# Altium footprint library PL02_22F.PcbLib: 34 footprints (part 2 of 3)
Each footprint in its own frame and in the unit in brackets; x right, y up, seen from the top. Pads: shape width x height; smd on the part's side, far side on the other; paste and mask are expansions set on the pad; w line width, h text height; cw(c..) or ccw(c..) is an arc to the next point about the centre after c.
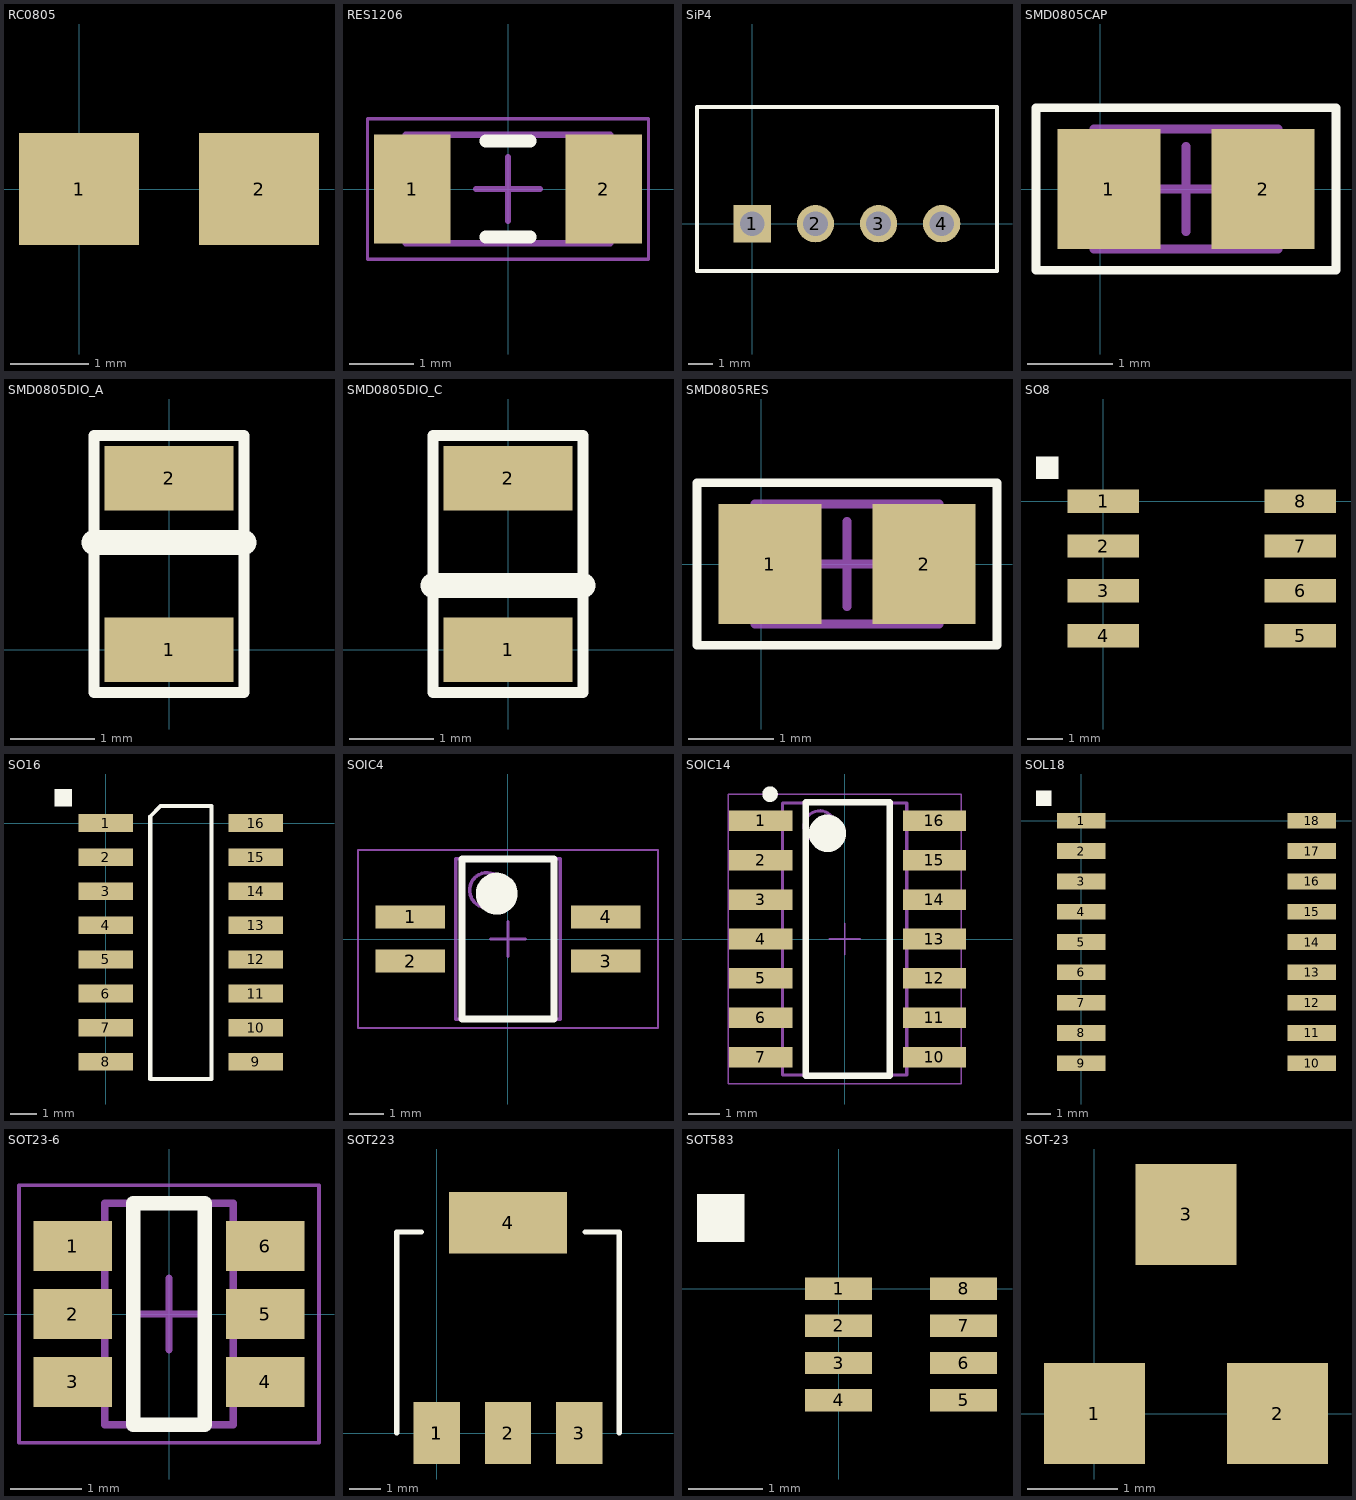
[diagram p1: the footprints below, top view; thin cyan lines are the x and y axes]

## RC0805 [mil]
pads (2):
  rect 60x56 smd: 1(0,0) 2(90,0)
3D body "CAPC2012X140N.stp": height 51.18, standoff 0, extent 3.67,-26.57 86.34,26.58

## RES1206 [mm] "Chip Resistor, 2-Leads, Body 3,10x1,60mm, IPC Medium Density"
height 0.6
pads (2):
  rect 1.2x1.7 smd: 1(-1.5,0) 2(1.5,0)
Top Overlay:
  lines w0.2: -0.35,-0.75 0.35,-0.75 ; -0.35,0.75 0.35,0.75
Mechanical 13:
  lines w0.1: -1.6,-0.85 1.6,-0.85 1.6,0.85 -1.6,0.85 -1.6,-0.85
Mechanical 15:
  lines w0.05: -2.2,-1.1 2.2,-1.1 2.2,1.1 -2.2,1.1 -2.2,-1.1
  lines w0.1: -0.5,0 0.5,0 ; 0,-0.5 0,0.5
3D body "RES1206.step": height 0.6, standoff 0, extent -1.6,-0.85 1.6,0.85

## SiP4 [mm]
height 1.2
pads (4):
  rect 1.5x1.5 hole 1: 1(0,0)
  round 1.5 hole 1: 2(2.54,0) 3(5.08,0) 4(7.62,0)
Top Overlay:
  lines w0.15: -2.222,-1.905 9.842,-1.905 ; -2.222,-1.841 -2.222,4.699 9.842,4.699 9.842,-1.841
3D body "DCDC_TRACO_TME24.stp": height 10.45, standoff -3.2, extent -2.065,-1.8 9.685,5.45

## SMD0805CAP [mm] "Чипконденсатор, 2.0x1.3mm"
height 0.65
pads (2):
  rect 1.2x1.4 smd: 1(0.102,0.002) 2(1.902,0.002)
Top Overlay:
  lines w0.1: -0.748,-0.948 -0.748,0.952 2.752,0.952 2.752,-0.948 -0.748,-0.948
Mechanical 13:
  lines w0.1: -0.073,-0.698 2.077,-0.698 2.077,0.702 -0.073,0.702 -0.073,-0.698
Mechanical 15:
  lines w0.1: 0.502,0.002 1.502,0.002 ; 1.002,-0.498 1.002,0.502
3D body: height 16.5, standoff 0, extent 4.03,-0.548 4.03,-0.548
3D body "CAPC2012X90N.stp": height 0.9, standoff 0, extent -0.025,-0.675 2.075,0.675
3D body: height 1.3, standoff 0, extent -1.651,-0.127 -1.651,-0.127

## SMD0805DIO_A [mil]
pads (2):
  rect 60x30 smd: 1(0,0) 2(0,80)
Top Overlay:
  lines w5: -35,-20 35,-20 35,100 -35,100 -35,-20
  lines w11.81: -35,50 35,50
3D body "LED_OSRAM_LYR976.stp": height 35.43, standoff 0, extent -26.58,-1.33 26.57,81.34

## SMD0805DIO_C [mil]
pads (2):
  rect 60x30 smd: 1(0,0) 2(0,80)
Top Overlay:
  lines w5: -35,-20 -35,100 35,100 35,-20 -35,-20
  lines w11.81: -35,30 35,30
3D body "LED_OSRAM_LYR976.stp": height 35.43, standoff 0, extent -26.58,-1.33 26.57,81.34

## SMD0805RES [mm] "Чипрезистор, 2.0x1.3mm"
height 0.65
pads (2):
  rect 1.2x1.4 smd: 1(0.102,0.002) 2(1.902,0.002)
Top Overlay:
  lines w0.1: -0.748,-0.948 2.752,-0.948 2.752,0.952 -0.748,0.952 -0.748,-0.948
Mechanical 13:
  lines w0.1: -0.073,-0.698 -0.073,0.702 2.077,0.702 2.077,-0.698 -0.073,-0.698
Mechanical 15:
  lines w0.1: 0.502,0.002 1.502,0.002 ; 1.002,-0.498 1.002,0.502
3D body "RES0805.STEP": height 0.51, standoff 0, extent 0,-0.627 2.004,0.627

## SO8 [mil] "SOIC 8, Pitch 1.27mm - Body 4x5mm, IPC Medium Density"
pads (8):
  rect 80x26 smd: 1(0,0) 2(0,-50) 3(0,-100) 4(0,-150) 5(220,-150) 6(220,-100) 7(220,-50) 8(220,0)
Top Overlay:
  region: -75,25 -50,25 -50,50 -75,50
3D body "SOIC127P600X175-8N.stp": height 68.9, standoff 0, extent -15.74,-173.42 228.36,23.43

## SO16 [mil] "SOIC 16, Pitch 1.27mm - Body 4x10mm, IPC Medium Density"
height 68.9
pads (16):
  rect 80x26 smd: 1(0,0) 2(0,-50) 3(0,-100) 4(0,-150) 5(0,-200) 6(0,-250) 7(0,-300) 8(0,-350) 9(220,-350) 10(220,-300) 11(220,-250) 12(220,-200) 13(220,-150) 14(220,-100) 15(220,-50) 16(220,0)
Top Overlay:
  region: -75,25 -50,25 -50,50 -75,50
  lines w5.91: 65,-375 65,10 80,25 155,25 155,-375 65,-375
3D body "SOIC127P600X175-16N.stp": height 68.9, standoff 0, extent -15.75,-371.85 228.35,21.85

## SOIC4 [mm]
height 2.1
pads (4):
  rect 2x0.66 smd: 1(-2.8,0.635) 2(-2.8,-0.635) 3(2.8,-0.635) 4(2.8,0.635)
Top Overlay:
  circle w0.6: c-0.325,1.3 r0.3
  lines w0.2: -1.325,-2.3 -1.325,2.3 1.325,2.3 1.325,-2.3 -1.325,-2.3
Mechanical 13:
  circle w0.1: c-0.6,1.4 r0.5
  lines w0.1: -1.5,-2.3 -1.5,2.3 1.5,2.3 1.5,-2.3 -1.5,-2.3
Mechanical 15:
  lines w0.05: -4.3,-2.55 -4.3,2.55 4.3,2.55 4.3,-2.55 -4.3,-2.55
  lines w0.1: -0.5,0 0.5,0 ; 0,-0.5 0,0.5
3D body: height 2.1, standoff 0.2, extent -1.5,-2.3 1.5,2.3

## SOIC14 [mil] "SOIC 14, Pitch 1.27mm - Body 4x8.75mm, IPC Medium Density"
height 68.9
pads (14):
  rect 80x26 smd: 1(-106.3,150) 2(-106.3,100) 3(-106.3,50) 4(-106.3,0) 5(-106.3,-50) 6(-106.3,-100) 7(-106.3,-150) 10(113.7,-150) 11(113.7,-100) 12(113.7,-50) 13(113.7,0) 14(113.7,50) 15(113.7,100) 16(113.7,150)
Top Overlay:
  circle w23.62: c-21.65,133.86 r11.81
  circle w9.84: c-94.49,183.46 r4.92
  lines w7.87: -49.21,-173.23 -49.21,173.23 56.1,173.23 ; -48.23,-173.23 57.09,-173.23 57.09,173.23
Mechanical 14:
  circle w3.94: c-31.5,142.72 r19.68
  lines w3.94: -78.74,-172.05 78.74,-172.05 78.74,172.05 -78.74,172.05 -78.74,-172.05
Mechanical 15:
  lines w1.97: -19.69,0 19.68,0 ; 0,-19.68 0,19.68 ; -147.64,-183.07 147.64,-183.07 147.64,183.07 -147.64,183.07 -147.64,-183.07
3D body "SOIC127P600X175-14N.stp": height 68.9, standoff 0, extent -118.58,-172.24 125.51,172.25

## SOL18 [mil]
pads (18):
  rect 80x26 smd: 1(0,0) 2(0,-50) 3(0,-100) 4(0,-150) 5(0,-200) 6(0,-250) 7(0,-300) 8(0,-350) 9(0,-400) 10(380,-400) 11(380,-350) 12(380,-300) 13(380,-250) 14(380,-200) 15(380,-150) 16(380,-100) 17(380,-50) 18(380,0)
Top Overlay:
  region: -75,25 -50,25 -50,50 -75,50
3D body "SOIC127P1030X265-18N.stp": height 66.14, standoff 0, extent -18.89,-431.29 388.98,31.31

## SOT23-6 [mm] "SOT23, 6-Leads, Body 2,90x2,75mm, Pitch 0,95mm, IPC Medium Density"
height 1.2
pads (6):
  rect 1.1x0.7 smd: 1(-1.35,0.95) 2(-1.35,0) 3(-1.35,-0.95) 4(1.35,-0.95) 5(1.35,0) 6(1.35,0.95)
Top Overlay:
  lines w0.2: -0.5,-1.55 0.5,-1.55 0.5,1.55 -0.5,1.55 -0.5,-1.55
Mechanical 13:
  lines w0.1: -0.9,-1.55 -0.9,1.55 0.9,1.55 0.9,-1.55 -0.9,-1.55
Mechanical 15:
  lines w0.05: -2.1,-1.8 -2.1,1.8 2.1,1.8 2.1,-1.8 -2.1,-1.8
  lines w0.1: -0.5,0 0.5,0 ; 0,-0.5 0,0.5
3D body "SOT95P280X100-6N.stp": height 1, standoff 0, extent -1.4,-1.5 1.4,1.5

## SOT223 [mm] "SOT223, 2.30mm pitch; 3 pin, 3.70mm W X 6.70mm L, IPC Medium Density"
height 1.75
pads (5):
  rect 1.5x2 smd: 1(0,0) 2(2.3,0) 3(4.6,0)
  rect 1x2 smd: 1(0,0)
  rect 3.8x2 smd: 4(2.3,6.8)
Top Overlay:
  lines w0.173: -1.3,0 -1.3,6.5 -0.5,6.5 ; 4.8,6.5 5.9,6.5 5.9,0
3D body "SOT230P700X175-4N.stp": height 1.75, standoff 0, extent -1.05,-0.649 5.65,6.649

## SOT583 [mm] "SOT583, Pitch 0.5mm - Body 1.6x2.1mm"
height 0.5
pads (8):
  rect 0.9x0.3 smd: 1(0,0) 2(0,-0.5) 3(0,-1) 4(0,-1.5) 5(1.68,-1.5) 6(1.68,-1) 7(1.68,-0.5) 8(1.68,0)
Top Overlay:
  region: -1.905,0.635 -1.27,0.635 -1.27,1.27 -1.905,1.27
3D body "SOT_33DRLR_TEX.step": height 0.61, standoff 0, extent -0.001,-1.855 1.701,0.355

## SOT-23 [mil]
pads (3):
  rect 44x44 smd: 1(0,0) 2(80,0) 3(40,87)
3D body "SOT95P240X110-3N.stp": height 43.31, standoff 0.08, extent -21.66,-3.94 96.46,94.49